# Altium integrated library TI Power Management Battery Management.IntLib: 949 symbols (part 20 of 62)
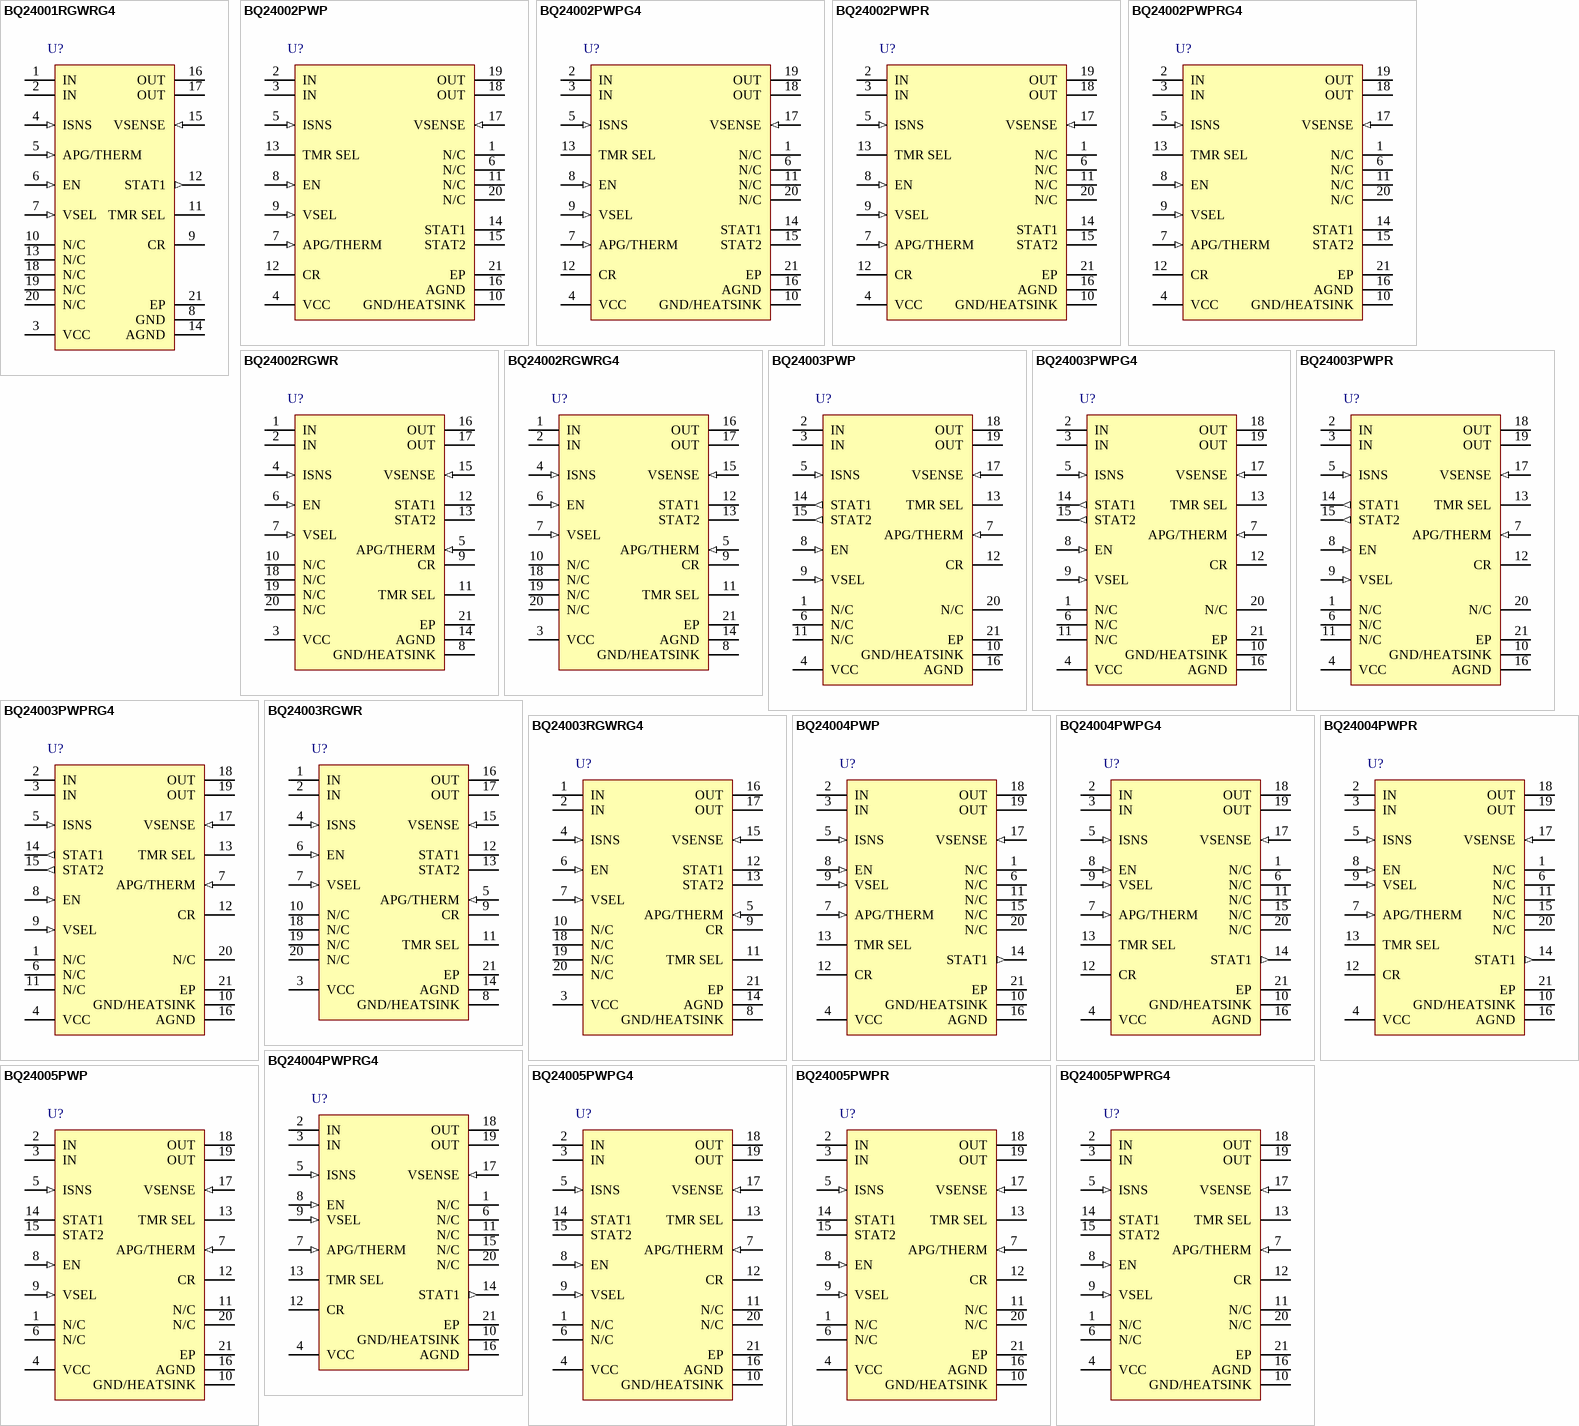
[diagram p53: symbols BQ24001RGWRG4 to BQ24005PWPRG4]

## BQ24002RGWR
designator U?
Linear 1-Cell Li-Ion Battery Charger with Integrated FET, Two LED, 4.5 V, -40 to 70 degC, 20-pin VQFN (RGW), Green (RoHS & no Sb/Br); PartNumber: BQ24002RGWR; Manufacturer: Texas Instruments; Lead Acid: N; Li-Ion: Y; SubFamily: Battery Charge Management; Vin(Min)(V): 4.5; DatasheetVersion: SLUS462E; PackageVersion: revI, May-2011; PackageReference: PWP20-3005X2005TP; PackageDescription: 20-Pin PowerPAD Plastic Small Outline 6.5 x 4.4 mm Body ,0.65 mm Pitch, Exposed Pad; Supplier 1: Digi-Key; Supplier Part Number 1: 296-12969-2-ND; Supplier 2: Digi-Key; Supplier Part Number 2: 296-12969-1-ND; Supplier 3: Digi-Key; Supplier Part Number 3: 296-12969-6-ND; Supplier 4: Newark; Supplier Part Number 4: 74C7635; Supplier 5: Mouser; Supplier Part Number 5: 595-BQ24002RGWR; Eco-Plan: Green (RoHS & no Sb/Br); Li-Polymer: Y; NiCd: N; NiMH: N; Over Voltage Protection: N; Mounting Technology: Surface Mount; Code_JEDEC: MO-153; ComponentLink1Description: Datasheet; ComponentLink1URL: http://www.ti.com/general/docs/lit/getliterature.tsp?genericPartNumber=BQ24002&fileType=pdf
footprint PWP20-3005X2005TP_N (TSOP, 20-Leads, Body 6.5x4.4mm, Pitch 0.65mm, Thermal Pad 3.7x2.4 mm, IPC Medium Density)
footprint PWP20-3005X2005TP_L (TSOP, 20-Leads, Body 6.5x4.4mm, Pitch 0.65mm, Thermal Pad 3.7x2.4 mm, IPC High Density)
footprint PWP20-3005X2005TP_M (TSOP, 20-Leads, Body 6.5x4.4mm, Pitch 0.65mm, Thermal Pad 3.7x2.4 mm, IPC Low Density)
pins: 1 IN (power) "Input voltage. This input provides the charging voltage for the battery", 2 IN (power) "Input voltage. This input provides the charging voltage for the battery", 3 VCC (power) "Supply voltage", 4 ISNS (in) "Current sense input", 5 APG/THERM (in) "Adapter power good input/thermistor sense input", 6 EN (in) "Charge-enable input. Active-high enable input with internal pull down. Low-current stand-by mode active when EN is low", 7 VSEL (in) "4.1 V or 4.2 V charge regulation selection input", 8 GND/HEATSINK (power) "Ground pin; connect to PowerPAD heat-sink layout pattern", 9 CR "Internal regulator bypass capacitor", 10 N/C "No connect. These pins must be left floating. Pin 15 is N/C on bq24001PWP only. Pin 13 is N/C on bq24001RGW only", 11 TMR SEL "Charge timer selection input", 12 STAT1 (oc) "Status display output 1", 13 STAT2 (oc) "Status display output 2 (for bq24002 and bq24003 only)", 14 AGND (power) "Ground pin; connect close to the negative battery terminal", 15 VSENSE (in) "Battery voltage sense input", 16 OUT (power) "Charge current output", 17 OUT (power) "Charge current output", 18 N/C "No connect. These pins must be left floating. Pin 15 is N/C on bq24001PWP only. Pin 13 is N/C on bq24001RGW only", 19 N/C "No connect. These pins must be left floating. Pin 15 is N/C on bq24001PWP only. Pin 13 is N/C on bq24001RGW only", 20 N/C "No connect. These pins must be left floating. Pin 15 is N/C on bq24001PWP only. Pin 13 is N/C on bq24001RGW only", 21 EP (power) "Exposed thermal pad"

## BQ24002RGWRG4
designator U?
Linear 1-Cell Li-Ion Battery Charger with Integrated FET, Two LED, 4.5 V, -40 to 70 degC, 20-pin VQFN (RGW), Green (RoHS & no Sb/Br); PartNumber: BQ24002RGWRG4; Manufacturer: Texas Instruments; Lead Acid: N; Li-Ion: Y; SubFamily: Battery Charge Management; Vin(Min)(V): 4.5; DatasheetVersion: SLUS462E; PackageVersion: revC, Jul-2011; PackageReference: RGW20-3150X3150TP; PackageDescription: 20-Pin Plastic Quad Flat No-Lead, 5 x 5 mm Body, 0.65 mm Pitch, 3.15 x 3.15 mm Exposed Pad; Supplier 1: Digi-Key; Supplier Part Number 1: BQ24002RGWRG4-ND; Supplier 2: Newark; Supplier Part Number 2: 24K4381; Supplier 3: Mouser; Supplier Part Number 3: 595-BQ24002RGWRG4; Eco-Plan: Green (RoHS & no Sb/Br); Li-Polymer: Y; NiCd: N; NiMH: N; Over Voltage Protection: N; Mounting Technology: Surface Mount; Code_JEDEC: MO-220; ComponentLink1Description: Datasheet; ComponentLink1URL: http://www.ti.com/general/docs/lit/getliterature.tsp?genericPartNumber=BQ24002&fileType=pdf
footprint RGW20-3150X3150TP (QFN, 20-Leads, Body 5x5mm, Pitch 0.65mm, Thermal Pad 3.15x3.15mm, TI Recommended)
pins: 1 IN (power) "Input voltage. This input provides the charging voltage for the battery", 2 IN (power) "Input voltage. This input provides the charging voltage for the battery", 3 VCC (power) "Supply voltage", 4 ISNS (in) "Current sense input", 5 APG/THERM (in) "Adapter power good input/thermistor sense input", 6 EN (in) "Charge-enable input. Active-high enable input with internal pull down. Low-current stand-by mode active when EN is low", 7 VSEL (in) "4.1 V or 4.2 V charge regulation selection input", 8 GND/HEATSINK (power) "Ground pin; connect to PowerPAD heat-sink layout pattern", 9 CR "Internal regulator bypass capacitor", 10 N/C "No connect. These pins must be left floating. Pin 15 is N/C on bq24001PWP only. Pin 13 is N/C on bq24001RGW only", 11 TMR SEL "Charge timer selection input", 12 STAT1 (oc) "Status display output 1", 13 STAT2 (oc) "Status display output 2 (for bq24002 and bq24003 only)", 14 AGND (power) "Ground pin; connect close to the negative battery terminal", 15 VSENSE (in) "Battery voltage sense input", 16 OUT (power) "Charge current output", 17 OUT (power) "Charge current output", 18 N/C "No connect. These pins must be left floating. Pin 15 is N/C on bq24001PWP only. Pin 13 is N/C on bq24001RGW only", 19 N/C "No connect. These pins must be left floating. Pin 15 is N/C on bq24001PWP only. Pin 13 is N/C on bq24001RGW only", 20 N/C "No connect. These pins must be left floating. Pin 15 is N/C on bq24001PWP only. Pin 13 is N/C on bq24001RGW only", 21 EP (power) "Exposed thermal pad"

## BQ24003PWP
designator U?
Linear 1-Cell Li-Ion Battery Charger with Integrated FET, Bi-Color LED, 4.5 V, 0 to 70 degC, 20-pin HTSSOP (PWP), Green (RoHS & no Sb/Br); PartNumber: BQ24003PWP; Manufacturer: Texas Instruments; Lead Acid: N; Li-Ion: Y; SubFamily: Battery Charge Management; Vin(Min)(V): 4.5; DatasheetVersion: SLUS462E; PackageVersion: revI, May-2011; PackageReference: PWP20-3005X2005TP; PackageDescription: 20-Pin PowerPAD Plastic Small Outline 6.5 x 4.4 mm Body ,0.65 mm Pitch, Exposed Pad; Supplier 1: Digi-Key; Supplier Part Number 1: 296-9380-5-ND; Supplier 2: Newark; Supplier Part Number 2: 74C7636; Supplier 3: Mouser; Supplier Part Number 3: 595-BQ24003PWP; Eco-Plan: Green (RoHS & no Sb/Br); Li-Polymer: Y; NiCd: N; NiMH: N; Over Voltage Protection: N; Mounting Technology: Surface Mount; Code_JEDEC: MO-153; ComponentLink1Description: Datasheet; ComponentLink1URL: http://www.ti.com/general/docs/lit/getliterature.tsp?genericPartNumber=BQ24003&fileType=pdf
footprint PWP20-3005X2005TP_N (TSOP, 20-Leads, Body 6.5x4.4mm, Pitch 0.65mm, Thermal Pad 3.7x2.4 mm, IPC Medium Density)
footprint PWP20-3005X2005TP_L (TSOP, 20-Leads, Body 6.5x4.4mm, Pitch 0.65mm, Thermal Pad 3.7x2.4 mm, IPC High Density)
footprint PWP20-3005X2005TP_M (TSOP, 20-Leads, Body 6.5x4.4mm, Pitch 0.65mm, Thermal Pad 3.7x2.4 mm, IPC Low Density)
pins: 1 N/C "No connect. These pins must be left floating. Pin 15 is N/C on bq24001PWP only. Pin 13 is N/C on bq24001RGW only.", 2 IN (power) "Input voltage. This input provides the charging voltage for the battery.", 3 IN (power) "Input voltage. This input provides the charging voltage for the battery.", 4 VCC (power) "Supply voltage", 5 ISNS (in) "Current sense input", 6 N/C "No connect. These pins must be left floating. Pin 15 is N/C on bq24001PWP only. Pin 13 is N/C on bq24001RGW only.", 7 APG/THERM (in) "Adapter power good input/thermistor sense input", 8 EN (in) "Charge-enable input. Active-high enable input with internal pull down. Low-current stand-by mode active when EN is low.", 9 VSEL (in) "4.1 V or 4.2 V charge regulation selection input", 10 GND/HEATSINK (power) "Ground pin; connect to PowerPAD heat-sink layout pattern.", 11 N/C "No connect. These pins must be left floating. Pin 15 is N/C on bq24001PWP only. Pin 13 is N/C on bq24001RGW only.", 12 CR "Internal regulator bypass capacitor", 13 TMR SEL "Charge timer selection input", 14 STAT1 (out) "Status display output 1", 15 STAT2 (out) "Status display output 2 (for bq24002 and bq24003 only)", 16 AGND (power) "Ground pin; connect close to the negative battery terminal.", 17 VSENSE (in) "Battery voltage sense input", 18 OUT (power) "Charge current output", 19 OUT (power) "Charge current output", 20 N/C "No connect. These pins must be left floating. Pin 15 is N/C on bq24001PWP only. Pin 13 is N/C on bq24001RGW only.", 21 EP (power) "Exposed pad"

## BQ24003PWPG4
designator U?
Linear 1-Cell Li-Ion Battery Charger with Integrated FET, Bi-Color LED, 4.5 V, 0 to 70 degC, 20-pin HTSSOP (PWP), Green (RoHS & no Sb/Br); PartNumber: BQ24003PWPG4; Manufacturer: Texas Instruments; Lead Acid: N; Li-Ion: Y; SubFamily: Battery Charge Management; Vin(Min)(V): 4.5; DatasheetVersion: SLUS462E; PackageVersion: revI, May-2011; PackageReference: PWP20-3005X2005TP; PackageDescription: 20-Pin PowerPAD Plastic Small Outline 6.5 x 4.4 mm Body ,0.65 mm Pitch, Exposed Pad; Supplier 1: Digi-Key; Supplier Part Number 1: BQ24003PWPG4-ND; Supplier 2: Newark; Supplier Part Number 2: 21M9450; Supplier 3: Mouser; Supplier Part Number 3: 595-BQ24003PWPG4; Eco-Plan: Green (RoHS & no Sb/Br); Li-Polymer: Y; NiCd: N; NiMH: N; Over Voltage Protection: N; Mounting Technology: Surface Mount; Code_JEDEC: MO-153; ComponentLink1Description: Datasheet; ComponentLink1URL: http://www.ti.com/general/docs/lit/getliterature.tsp?genericPartNumber=BQ24003&fileType=pdf
footprint PWP20-3005X2005TP_N (TSOP, 20-Leads, Body 6.5x4.4mm, Pitch 0.65mm, Thermal Pad 3.7x2.4 mm, IPC Medium Density)
footprint PWP20-3005X2005TP_L (TSOP, 20-Leads, Body 6.5x4.4mm, Pitch 0.65mm, Thermal Pad 3.7x2.4 mm, IPC High Density)
footprint PWP20-3005X2005TP_M (TSOP, 20-Leads, Body 6.5x4.4mm, Pitch 0.65mm, Thermal Pad 3.7x2.4 mm, IPC Low Density)
pins: 1 N/C "No connect. These pins must be left floating. Pin 15 is N/C on bq24001PWP only. Pin 13 is N/C on bq24001RGW only.", 2 IN (power) "Input voltage. This input provides the charging voltage for the battery.", 3 IN (power) "Input voltage. This input provides the charging voltage for the battery.", 4 VCC (power) "Supply voltage", 5 ISNS (in) "Current sense input", 6 N/C "No connect. These pins must be left floating. Pin 15 is N/C on bq24001PWP only. Pin 13 is N/C on bq24001RGW only.", 7 APG/THERM (in) "Adapter power good input/thermistor sense input", 8 EN (in) "Charge-enable input. Active-high enable input with internal pull down. Low-current stand-by mode active when EN is low.", 9 VSEL (in) "4.1 V or 4.2 V charge regulation selection input", 10 GND/HEATSINK (power) "Ground pin; connect to PowerPAD heat-sink layout pattern.", 11 N/C "No connect. These pins must be left floating. Pin 15 is N/C on bq24001PWP only. Pin 13 is N/C on bq24001RGW only.", 12 CR "Internal regulator bypass capacitor", 13 TMR SEL "Charge timer selection input", 14 STAT1 (out) "Status display output 1", 15 STAT2 (out) "Status display output 2 (for bq24002 and bq24003 only)", 16 AGND (power) "Ground pin; connect close to the negative battery terminal.", 17 VSENSE (in) "Battery voltage sense input", 18 OUT (power) "Charge current output", 19 OUT (power) "Charge current output", 20 N/C "No connect. These pins must be left floating. Pin 15 is N/C on bq24001PWP only. Pin 13 is N/C on bq24001RGW only.", 21 EP (power) "Exposed pad"

## BQ24003PWPR
designator U?
Linear 1-Cell Li-Ion Battery Charger with Integrated FET, Bi-Color LED, 4.5 V, 0 to 70 degC, 20-pin HTSSOP (PWP), Green (RoHS & no Sb/Br); PartNumber: BQ24003PWPR; Manufacturer: Texas Instruments; Lead Acid: N; Li-Ion: Y; SubFamily: Battery Charge Management; Vin(Min)(V): 4.5; DatasheetVersion: SLUS462E; PackageVersion: revI, May-2011; PackageReference: PWP20-3005X2005TP; PackageDescription: 20-Pin PowerPAD Plastic Small Outline 6.5 x 4.4 mm Body ,0.65 mm Pitch, Exposed Pad; Supplier 1: Digi-Key; Supplier Part Number 1: BQ24003PWPR-ND; Supplier 2: Newark; Supplier Part Number 2: 74C7637; Supplier 3: Mouser; Supplier Part Number 3: 595-BQ24003PWPR; Eco-Plan: Green (RoHS & no Sb/Br); Li-Polymer: Y; NiCd: N; NiMH: N; Over Voltage Protection: N; Mounting Technology: Surface Mount; Code_JEDEC: MO-153; ComponentLink1Description: Datasheet; ComponentLink1URL: http://www.ti.com/general/docs/lit/getliterature.tsp?genericPartNumber=BQ24003&fileType=pdf
footprint PWP20-3005X2005TP_N (TSOP, 20-Leads, Body 6.5x4.4mm, Pitch 0.65mm, Thermal Pad 3.7x2.4 mm, IPC Medium Density)
footprint PWP20-3005X2005TP_L (TSOP, 20-Leads, Body 6.5x4.4mm, Pitch 0.65mm, Thermal Pad 3.7x2.4 mm, IPC High Density)
footprint PWP20-3005X2005TP_M (TSOP, 20-Leads, Body 6.5x4.4mm, Pitch 0.65mm, Thermal Pad 3.7x2.4 mm, IPC Low Density)
pins: 1 N/C "No connect. These pins must be left floating. Pin 15 is N/C on bq24001PWP only. Pin 13 is N/C on bq24001RGW only.", 2 IN (power) "Input voltage. This input provides the charging voltage for the battery.", 3 IN (power) "Input voltage. This input provides the charging voltage for the battery.", 4 VCC (power) "Supply voltage", 5 ISNS (in) "Current sense input", 6 N/C "No connect. These pins must be left floating. Pin 15 is N/C on bq24001PWP only. Pin 13 is N/C on bq24001RGW only.", 7 APG/THERM (in) "Adapter power good input/thermistor sense input", 8 EN (in) "Charge-enable input. Active-high enable input with internal pull down. Low-current stand-by mode active when EN is low.", 9 VSEL (in) "4.1 V or 4.2 V charge regulation selection input", 10 GND/HEATSINK (power) "Ground pin; connect to PowerPAD heat-sink layout pattern.", 11 N/C "No connect. These pins must be left floating. Pin 15 is N/C on bq24001PWP only. Pin 13 is N/C on bq24001RGW only.", 12 CR "Internal regulator bypass capacitor", 13 TMR SEL "Charge timer selection input", 14 STAT1 (out) "Status display output 1", 15 STAT2 (out) "Status display output 2 (for bq24002 and bq24003 only)", 16 AGND (power) "Ground pin; connect close to the negative battery terminal.", 17 VSENSE (in) "Battery voltage sense input", 18 OUT (power) "Charge current output", 19 OUT (power) "Charge current output", 20 N/C "No connect. These pins must be left floating. Pin 15 is N/C on bq24001PWP only. Pin 13 is N/C on bq24001RGW only.", 21 EP (power) "Exposed pad"

## BQ24003PWPRG4
designator U?
Linear 1-Cell Li-Ion Battery Charger with Integrated FET, Bi-Color LED, 4.5 V, 0 to 70 degC, 20-pin HTSSOP (PWP), Green (RoHS & no Sb/Br); PartNumber: BQ24003PWPRG4; Manufacturer: Texas Instruments; Lead Acid: N; Li-Ion: Y; SubFamily: Battery Charge Management; Vin(Min)(V): 4.5; DatasheetVersion: SLUS462E; PackageVersion: revI, May-2011; PackageReference: PWP20-3005X2005TP; PackageDescription: 20-Pin PowerPAD Plastic Small Outline 6.5 x 4.4 mm Body ,0.65 mm Pitch, Exposed Pad; Supplier 1: Digi-Key; Supplier Part Number 1: BQ24003PWPRG4-ND; Supplier 2: Newark; Supplier Part Number 2: 53K9237; Supplier 3: Mouser; Supplier Part Number 3: 595-BQ24003PWPRG4; Eco-Plan: Green (RoHS & no Sb/Br); Li-Polymer: Y; NiCd: N; NiMH: N; Over Voltage Protection: N; Mounting Technology: Surface Mount; Code_JEDEC: MO-153; ComponentLink1Description: Datasheet; ComponentLink1URL: http://www.ti.com/general/docs/lit/getliterature.tsp?genericPartNumber=BQ24003&fileType=pdf
footprint PWP20-3005X2005TP_N (TSOP, 20-Leads, Body 6.5x4.4mm, Pitch 0.65mm, Thermal Pad 3.7x2.4 mm, IPC Medium Density)
footprint PWP20-3005X2005TP_L (TSOP, 20-Leads, Body 6.5x4.4mm, Pitch 0.65mm, Thermal Pad 3.7x2.4 mm, IPC High Density)
footprint PWP20-3005X2005TP_M (TSOP, 20-Leads, Body 6.5x4.4mm, Pitch 0.65mm, Thermal Pad 3.7x2.4 mm, IPC Low Density)
pins: 1 N/C "No connect. These pins must be left floating. Pin 15 is N/C on bq24001PWP only. Pin 13 is N/C on bq24001RGW only.", 2 IN (power) "Input voltage. This input provides the charging voltage for the battery.", 3 IN (power) "Input voltage. This input provides the charging voltage for the battery.", 4 VCC (power) "Supply voltage", 5 ISNS (in) "Current sense input", 6 N/C "No connect. These pins must be left floating. Pin 15 is N/C on bq24001PWP only. Pin 13 is N/C on bq24001RGW only.", 7 APG/THERM (in) "Adapter power good input/thermistor sense input", 8 EN (in) "Charge-enable input. Active-high enable input with internal pull down. Low-current stand-by mode active when EN is low.", 9 VSEL (in) "4.1 V or 4.2 V charge regulation selection input", 10 GND/HEATSINK (power) "Ground pin; connect to PowerPAD heat-sink layout pattern.", 11 N/C "No connect. These pins must be left floating. Pin 15 is N/C on bq24001PWP only. Pin 13 is N/C on bq24001RGW only.", 12 CR "Internal regulator bypass capacitor", 13 TMR SEL "Charge timer selection input", 14 STAT1 (out) "Status display output 1", 15 STAT2 (out) "Status display output 2 (for bq24002 and bq24003 only)", 16 AGND (power) "Ground pin; connect close to the negative battery terminal.", 17 VSENSE (in) "Battery voltage sense input", 18 OUT (power) "Charge current output", 19 OUT (power) "Charge current output", 20 N/C "No connect. These pins must be left floating. Pin 15 is N/C on bq24001PWP only. Pin 13 is N/C on bq24001RGW only.", 21 EP (power) "Exposed pad"

## BQ24003RGWR
designator U?
Linear 1-Cell Li-Ion Battery Charger with Integrated FET, Bi-Color LED, 4.5 V, -40 to 70 degC, 20-pin VQFN (RGW), Green (RoHS & no Sb/Br); PartNumber: BQ24003RGWR; Manufacturer: Texas Instruments; Lead Acid: N; Li-Ion: Y; SubFamily: Battery Charge Management; Vin(Min)(V): 4.5; DatasheetVersion: SLUS462E; PackageVersion: revC, Jul-2011; PackageReference: RGW20-3150X3150TP; PackageDescription: 20-Pin Plastic Quad Flat No-Lead, 5 x 5 mm Body, 0.65 mm Pitch, 3.15 x 3.15 mm Exposed Pad; Supplier 1: Digi-Key; Supplier Part Number 1: 296-12970-2-ND; Supplier 2: Digi-Key; Supplier Part Number 2: 296-12970-1-ND; Supplier 3: Digi-Key; Supplier Part Number 3: 296-12970-6-ND; Supplier 4: Newark; Supplier Part Number 4: 74C7638; Supplier 5: Mouser; Supplier Part Number 5: 595-BQ24003RGWR; Eco-Plan: Green (RoHS & no Sb/Br); Li-Polymer: Y; NiCd: N; NiMH: N; Over Voltage Protection: N; Mounting Technology: Surface Mount; Code_JEDEC: MO-220; ComponentLink1Description: Datasheet; ComponentLink1URL: http://www.ti.com/general/docs/lit/getliterature.tsp?genericPartNumber=BQ24003&fileType=pdf
footprint RGW20-3150X3150TP (QFN, 20-Leads, Body 5x5mm, Pitch 0.65mm, Thermal Pad 3.15x3.15mm, TI Recommended)
pins: 1 IN (power) "Input voltage. This input provides the charging voltage for the battery.", 2 IN (power) "Input voltage. This input provides the charging voltage for the battery.", 3 VCC (power) "Supply voltage", 4 ISNS (in) "Current sense input", 5 APG/THERM (in) "Adapter power good input/thermistor sense input", 6 EN (in) "Charge-enable input. Active-high enable input with internal pull down. Low-current stand-by mode active when EN is low.", 7 VSEL (in) "4.1 V or 4.2 V charge regulation selection input", 8 GND/HEATSINK (power) "Ground pin; connect to PowerPAD heat-sink layout pattern.", 9 CR "Internal regulator bypass capacitor", 10 N/C "No connect. These pins must be left floating.", 11 TMR SEL "Charge timer selection input", 12 STAT1 (oc) "Status display output 1", 13 STAT2 (oc) "Status display output 2", 14 AGND (power) "Ground pin; connect close to the negative battery terminal.", 15 VSENSE (in) "Battery voltage sense input", 16 OUT (power) "Charge current output", 17 OUT (power) "Charge current output", 18 N/C "No connect. These pins must be left floating.", 19 N/C "No connect. These pins must be left floating.", 20 N/C "No connect. These pins must be left floating.", 21 EP "Exposed thermal pad"

## BQ24003RGWRG4
designator U?
Linear 1-Cell Li-Ion Battery Charger with Integrated FET, Bi-Color LED, 4.5 V, -40 to 70 degC, 20-pin VQFN (RGW), Green (RoHS & no Sb/Br); PartNumber: BQ24003RGWRG4; Manufacturer: Texas Instruments; Lead Acid: N; Li-Ion: Y; SubFamily: Battery Charge Management; Vin(Min)(V): 4.5; DatasheetVersion: SLUS462E; PackageVersion: revC, Jul-2011; PackageReference: RGW20-3150X3150TP; PackageDescription: 20-Pin Plastic Quad Flat No-Lead, 5 x 5 mm Body, 0.65 mm Pitch, 3.15 x 3.15 mm Exposed Pad; Supplier 1: Digi-Key; Supplier Part Number 1: BQ24003RGWRG4-ND; Supplier 2: Newark; Supplier Part Number 2: 18M1768; Supplier 3: Mouser; Supplier Part Number 3: 595-BQ24003RGWRG4; Eco-Plan: Green (RoHS & no Sb/Br); Li-Polymer: Y; NiCd: N; NiMH: N; Over Voltage Protection: N; Mounting Technology: Surface Mount; Code_JEDEC: MO-220; ComponentLink1Description: Datasheet; ComponentLink1URL: http://www.ti.com/general/docs/lit/getliterature.tsp?genericPartNumber=BQ24003&fileType=pdf
footprint RGW20-3150X3150TP (QFN, 20-Leads, Body 5x5mm, Pitch 0.65mm, Thermal Pad 3.15x3.15mm, TI Recommended)
pins: 1 IN (power) "Input voltage. This input provides the charging voltage for the battery.", 2 IN (power) "Input voltage. This input provides the charging voltage for the battery.", 3 VCC (power) "Supply voltage", 4 ISNS (in) "Current sense input", 5 APG/THERM (in) "Adapter power good input/thermistor sense input", 6 EN (in) "Charge-enable input. Active-high enable input with internal pull down. Low-current stand-by mode active when EN is low.", 7 VSEL (in) "4.1 V or 4.2 V charge regulation selection input", 8 GND/HEATSINK (power) "Ground pin; connect to PowerPAD heat-sink layout pattern.", 9 CR "Internal regulator bypass capacitor", 10 N/C "No connect. These pins must be left floating.", 11 TMR SEL "Charge timer selection input", 12 STAT1 (oc) "Status display output 1", 13 STAT2 (oc) "Status display output 2", 14 AGND (power) "Ground pin; connect close to the negative battery terminal.", 15 VSENSE (in) "Battery voltage sense input", 16 OUT (power) "Charge current output", 17 OUT (power) "Charge current output", 18 N/C "No connect. These pins must be left floating.", 19 N/C "No connect. These pins must be left floating.", 20 N/C "No connect. These pins must be left floating.", 21 EP "Exposed thermal pad"

## BQ24004PWP
designator U?
Linear 2-Cell Li-Ion Battery Charger with Integrated FET, One LED, 4.5 V, 0 to 70 degC, 20-pin HTSSOP (PWP), Green (RoHS & no Sb/Br); PartNumber: BQ24004PWP; Manufacturer: Texas Instruments; Lead Acid: N; Li-Ion: Y; SubFamily: Battery Charge Management; Vin(Min)(V): 4.5; DatasheetVersion: SLUS476F; PackageVersion: revI, May-2011; PackageReference: PWP20-3005X2005TP; PackageDescription: 20-Pin PowerPAD Plastic Small Outline 6.5 x 4.4 mm Body ,0.65 mm Pitch, Exposed Pad; Supplier 1: Digi-Key; Supplier Part Number 1: 296-9381-5-ND; Supplier 2: Newark; Supplier Part Number 2: 74C7639; Supplier 3: Mouser; Supplier Part Number 3: 595-BQ24004PWP; Eco-Plan: Green (RoHS & no Sb/Br); Li-Polymer: Y; NiCd: N; NiMH: N; Over Voltage Protection: N; Mounting Technology: Surface Mount; Code_JEDEC: MO-153; ComponentLink1Description: Datasheet; ComponentLink1URL: http://www.ti.com/general/docs/lit/getliterature.tsp?genericPartNumber=BQ24004&fileType=pdf
footprint PWP20-3005X2005TP_N (TSOP, 20-Leads, Body 6.5x4.4mm, Pitch 0.65mm, Thermal Pad 3.7x2.4 mm, IPC Medium Density)
footprint PWP20-3005X2005TP_L (TSOP, 20-Leads, Body 6.5x4.4mm, Pitch 0.65mm, Thermal Pad 3.7x2.4 mm, IPC High Density)
footprint PWP20-3005X2005TP_M (TSOP, 20-Leads, Body 6.5x4.4mm, Pitch 0.65mm, Thermal Pad 3.7x2.4 mm, IPC Low Density)
pins: 1 N/C "No connect. These pins must be left floating", 2 IN (power) "Input voltage. This input provides the charging voltage for the battery.", 3 IN (power) "Input voltage. This input provides the charging voltage for the battery.", 4 VCC (power) "Supply voltage", 5 ISNS (in) "Current sense input", 6 N/C "No connect. These pins must be left floating", 7 APG/THERM (in) "Adapter power good input/thermistor sense input", 8 EN (in) "Charge-enable input. Active-high enable input with internal pull down. Low-current stand-by mode active when EN is low.", 9 VSEL (in) "8.2-V or 8.4-V charge regulation selection input", 10 GND/HEATSINK (power) "Ground pin; connect to PowerPAD heat-sink layout pattern.", 11 N/C "No connect. These pins must be left floating", 12 CR "Internal regulator bypass capacitor", 13 TMR SEL "Charge timer selection input", 14 STAT1 (out) "Status display output 1", 15 N/C "No connect. These pins must be left floating", 16 AGND (power) "Ground pin; connect close to the negative battery terminal.", 17 VSENSE (in) "Battery voltage sense input", 18 OUT (power) "Charge current output", 19 OUT (power) "Charge current output", 20 N/C "No connect. These pins must be left floating", 21 EP (power) "Exposed Thermal Pad"

## BQ24004PWPG4
designator U?
Linear 2-Cell Li-Ion Battery Charger with Integrated FET, One LED, 4.5 V, 0 to 70 degC, 20-pin HTSSOP (PWP), Green (RoHS & no Sb/Br); PartNumber: BQ24004PWPG4; Manufacturer: Texas Instruments; Lead Acid: N; Li-Ion: Y; SubFamily: Battery Charge Management; Vin(Min)(V): 4.5; DatasheetVersion: SLUS476F; PackageVersion: revI, May-2011; PackageReference: PWP20-3005X2005TP; PackageDescription: 20-Pin PowerPAD Plastic Small Outline 6.5 x 4.4 mm Body ,0.65 mm Pitch, Exposed Pad; Supplier 1: Digi-Key; Supplier Part Number 1: BQ24004PWPG4-ND; Supplier 2: Newark; Supplier Part Number 2: 33K4794; Supplier 3: Mouser; Supplier Part Number 3: 595-BQ24004PWPG4; Eco-Plan: Green (RoHS & no Sb/Br); Li-Polymer: Y; NiCd: N; NiMH: N; Over Voltage Protection: N; Mounting Technology: Surface Mount; Code_JEDEC: MO-153; ComponentLink1Description: Datasheet; ComponentLink1URL: http://www.ti.com/general/docs/lit/getliterature.tsp?genericPartNumber=BQ24004&fileType=pdf
footprint PWP20-3005X2005TP_N (TSOP, 20-Leads, Body 6.5x4.4mm, Pitch 0.65mm, Thermal Pad 3.7x2.4 mm, IPC Medium Density)
footprint PWP20-3005X2005TP_L (TSOP, 20-Leads, Body 6.5x4.4mm, Pitch 0.65mm, Thermal Pad 3.7x2.4 mm, IPC High Density)
footprint PWP20-3005X2005TP_M (TSOP, 20-Leads, Body 6.5x4.4mm, Pitch 0.65mm, Thermal Pad 3.7x2.4 mm, IPC Low Density)
pins: 1 N/C "No connect. These pins must be left floating", 2 IN (power) "Input voltage. This input provides the charging voltage for the battery.", 3 IN (power) "Input voltage. This input provides the charging voltage for the battery.", 4 VCC (power) "Supply voltage", 5 ISNS (in) "Current sense input", 6 N/C "No connect. These pins must be left floating", 7 APG/THERM (in) "Adapter power good input/thermistor sense input", 8 EN (in) "Charge-enable input. Active-high enable input with internal pull down. Low-current stand-by mode active when EN is low.", 9 VSEL (in) "8.2-V or 8.4-V charge regulation selection input", 10 GND/HEATSINK (power) "Ground pin; connect to PowerPAD heat-sink layout pattern.", 11 N/C "No connect. These pins must be left floating", 12 CR "Internal regulator bypass capacitor", 13 TMR SEL "Charge timer selection input", 14 STAT1 (out) "Status display output 1", 15 N/C "No connect. These pins must be left floating", 16 AGND (power) "Ground pin; connect close to the negative battery terminal.", 17 VSENSE (in) "Battery voltage sense input", 18 OUT (power) "Charge current output", 19 OUT (power) "Charge current output", 20 N/C "No connect. These pins must be left floating", 21 EP (power) "Exposed Thermal Pad"

## BQ24004PWPR
designator U?
Linear 2-Cell Li-Ion Battery Charger with Integrated FET, One LED, 4.5 V, 0 to 70 degC, 20-pin HTSSOP (PWP), Green (RoHS & no Sb/Br); PartNumber: BQ24004PWPR; Manufacturer: Texas Instruments; Lead Acid: N; Li-Ion: Y; SubFamily: Battery Charge Management; Vin(Min)(V): 4.5; DatasheetVersion: SLUS476F; PackageVersion: revI, May-2011; PackageReference: PWP20-3005X2005TP; PackageDescription: 20-Pin PowerPAD Plastic Small Outline 6.5 x 4.4 mm Body ,0.65 mm Pitch, Exposed Pad; Supplier 1: Digi-Key; Supplier Part Number 1: BQ24004PWPR-ND; Supplier 2: Newark; Supplier Part Number 2: 74C7640; Supplier 3: Mouser; Supplier Part Number 3: 595-BQ24004PWPR; Eco-Plan: Green (RoHS & no Sb/Br); Li-Polymer: Y; NiCd: N; NiMH: N; Over Voltage Protection: N; Mounting Technology: Surface Mount; Code_JEDEC: MO-153; ComponentLink1Description: Datasheet; ComponentLink1URL: http://www.ti.com/general/docs/lit/getliterature.tsp?genericPartNumber=BQ24004&fileType=pdf
footprint PWP20-3005X2005TP_N (TSOP, 20-Leads, Body 6.5x4.4mm, Pitch 0.65mm, Thermal Pad 3.7x2.4 mm, IPC Medium Density)
footprint PWP20-3005X2005TP_L (TSOP, 20-Leads, Body 6.5x4.4mm, Pitch 0.65mm, Thermal Pad 3.7x2.4 mm, IPC High Density)
footprint PWP20-3005X2005TP_M (TSOP, 20-Leads, Body 6.5x4.4mm, Pitch 0.65mm, Thermal Pad 3.7x2.4 mm, IPC Low Density)
pins: 1 N/C "No connect. These pins must be left floating", 2 IN (power) "Input voltage. This input provides the charging voltage for the battery.", 3 IN (power) "Input voltage. This input provides the charging voltage for the battery.", 4 VCC (power) "Supply voltage", 5 ISNS (in) "Current sense input", 6 N/C "No connect. These pins must be left floating", 7 APG/THERM (in) "Adapter power good input/thermistor sense input", 8 EN (in) "Charge-enable input. Active-high enable input with internal pull down. Low-current stand-by mode active when EN is low.", 9 VSEL (in) "8.2-V or 8.4-V charge regulation selection input", 10 GND/HEATSINK (power) "Ground pin; connect to PowerPAD heat-sink layout pattern.", 11 N/C "No connect. These pins must be left floating", 12 CR "Internal regulator bypass capacitor", 13 TMR SEL "Charge timer selection input", 14 STAT1 (out) "Status display output 1", 15 N/C "No connect. These pins must be left floating", 16 AGND (power) "Ground pin; connect close to the negative battery terminal.", 17 VSENSE (in) "Battery voltage sense input", 18 OUT (power) "Charge current output", 19 OUT (power) "Charge current output", 20 N/C "No connect. These pins must be left floating", 21 EP (power) "Exposed Thermal Pad"

## BQ24004PWPRG4
designator U?
Linear 2-Cell Li-Ion Battery Charger with Integrated FET, One LED, 4.5 V, 0 to 70 degC, 20-pin HTSSOP (PWP), Green (RoHS & no Sb/Br); PartNumber: BQ24004PWPRG4; Manufacturer: Texas Instruments; Lead Acid: N; Li-Ion: Y; SubFamily: Battery Charge Management; Vin(Min)(V): 4.5; DatasheetVersion: SLUS476F; PackageVersion: revI, May-2011; PackageReference: PWP20-3005X2005TP; PackageDescription: 20-Pin PowerPAD Plastic Small Outline 6.5 x 4.4 mm Body ,0.65 mm Pitch, Exposed Pad; Supplier 1: Digi-Key; Supplier Part Number 1: BQ24004PWPRG4-ND; Supplier 2: Newark; Supplier Part Number 2: 33K4795; Supplier 3: Mouser; Supplier Part Number 3: 595-BQ24004PWPRG4; Eco-Plan: Green (RoHS & no Sb/Br); Li-Polymer: Y; NiCd: N; NiMH: N; Over Voltage Protection: N; Mounting Technology: Surface Mount; Code_JEDEC: MO-153; ComponentLink1Description: Datasheet; ComponentLink1URL: http://www.ti.com/general/docs/lit/getliterature.tsp?genericPartNumber=BQ24004&fileType=pdf
footprint PWP20-3005X2005TP_N (TSOP, 20-Leads, Body 6.5x4.4mm, Pitch 0.65mm, Thermal Pad 3.7x2.4 mm, IPC Medium Density)
footprint PWP20-3005X2005TP_L (TSOP, 20-Leads, Body 6.5x4.4mm, Pitch 0.65mm, Thermal Pad 3.7x2.4 mm, IPC High Density)
footprint PWP20-3005X2005TP_M (TSOP, 20-Leads, Body 6.5x4.4mm, Pitch 0.65mm, Thermal Pad 3.7x2.4 mm, IPC Low Density)
pins: 1 N/C "No connect. These pins must be left floating", 2 IN (power) "Input voltage. This input provides the charging voltage for the battery.", 3 IN (power) "Input voltage. This input provides the charging voltage for the battery.", 4 VCC (power) "Supply voltage", 5 ISNS (in) "Current sense input", 6 N/C "No connect. These pins must be left floating", 7 APG/THERM (in) "Adapter power good input/thermistor sense input", 8 EN (in) "Charge-enable input. Active-high enable input with internal pull down. Low-current stand-by mode active when EN is low.", 9 VSEL (in) "8.2-V or 8.4-V charge regulation selection input", 10 GND/HEATSINK (power) "Ground pin; connect to PowerPAD heat-sink layout pattern.", 11 N/C "No connect. These pins must be left floating", 12 CR "Internal regulator bypass capacitor", 13 TMR SEL "Charge timer selection input", 14 STAT1 (out) "Status display output 1", 15 N/C "No connect. These pins must be left floating", 16 AGND (power) "Ground pin; connect close to the negative battery terminal.", 17 VSENSE (in) "Battery voltage sense input", 18 OUT (power) "Charge current output", 19 OUT (power) "Charge current output", 20 N/C "No connect. These pins must be left floating", 21 EP (power) "Exposed Thermal Pad"

## BQ24005PWP
designator U?
Linear 2-Cell Li-Ion Battery Charger with Integrated FET, Two LED, 4.5 V, -20 to 70 degC, 20-pin HTSSOP (PWP), Green (RoHS & no Sb/Br); PartNumber: BQ24005PWP; Manufacturer: Texas Instruments; Lead Acid: N; Li-Ion: Y; SubFamily: Battery Charge Management; Vin(Min)(V): 4.5; DatasheetVersion: SLUS476F; PackageVersion: revI, May-2011; PackageReference: PWP20-3005X2005TP; PackageDescription: 20-Pin PowerPAD Plastic Small Outline 6.5 x 4.4 mm Body ,0.65 mm Pitch, Exposed Pad; Supplier 1: Digi-Key; Supplier Part Number 1: 296-9382-5-ND; Supplier 2: Farnell; Supplier Part Number 2: 1106058; Supplier 3: Newark; Supplier Part Number 3: 74C7641; Supplier 4: Mouser; Supplier Part Number 4: 595-BQ24005PWP; Eco-Plan: Green (RoHS & no Sb/Br); Li-Polymer: Y; NiCd: N; NiMH: N; Over Voltage Protection: N; Mounting Technology: Surface Mount; Code_JEDEC: MO-153; ComponentLink1Description: Datasheet; ComponentLink1URL: http://www.ti.com/general/docs/lit/getliterature.tsp?genericPartNumber=BQ24005&fileType=pdf
footprint PWP20-3005X2005TP_N (TSOP, 20-Leads, Body 6.5x4.4mm, Pitch 0.65mm, Thermal Pad 3.7x2.4 mm, IPC Medium Density)
footprint PWP20-3005X2005TP_L (TSOP, 20-Leads, Body 6.5x4.4mm, Pitch 0.65mm, Thermal Pad 3.7x2.4 mm, IPC High Density)
footprint PWP20-3005X2005TP_M (TSOP, 20-Leads, Body 6.5x4.4mm, Pitch 0.65mm, Thermal Pad 3.7x2.4 mm, IPC Low Density)
pins: 1 N/C "No connect. These pins must be left floating. Pin 15 is N/C on bq24004PWP only.", 2 IN (power) "Input voltage. This input provides the charging voltage for the battery.", 3 IN (power) "Input voltage. This input provides the charging voltage for the battery.", 4 VCC (power) "Supply voltage", 5 ISNS (in) "Current sense input", 6 N/C "No connect. These pins must be left floating. Pin 15 is N/C on bq24004PWP only.", 7 APG/THERM (in) "Adapter power good input/thermistor sense input", 8 EN (in) "Charge-enable input. Active-high enable input with internal pull down. Low-current stand-by mode active when EN is low.", 9 VSEL (in) "8.2-V or 8.4-V charge regulation selection input", 10 GND/HEATSINK (power) "Ground pin; connect to PowerPAD heat-sink layout pattern.", 11 N/C "No connect. These pins must be left floating. Pin 15 is N/C on bq24004PWP only.", 12 CR "Internal regulator bypass capacitor", 13 TMR SEL "Charge timer selection input", 14 STAT1 (oc) "Status display output 1", 15 STAT2 (oc) "Status display output 2", 16 AGND (power) "Ground pin; connect close to the negative battery terminal.", 17 VSENSE (in) "Battery voltage sense input", 18 OUT (power) "Charge current output", 19 OUT (power) "Charge current output", 20 N/C "No connect. These pins must be left floating. Pin 15 is N/C on bq24004PWP only.", 21 EP (power) "Exposed Thermal Pad"

## BQ24005PWPG4
designator U?
Linear 2-Cell Li-Ion Battery Charger with Integrated FET, Two LED, 4.5 V, -20 to 70 degC, 20-pin HTSSOP (PWP), Green (RoHS & no Sb/Br); PartNumber: BQ24005PWPG4; Manufacturer: Texas Instruments; Lead Acid: N; Li-Ion: Y; SubFamily: Battery Charge Management; Vin(Min)(V): 4.5; DatasheetVersion: SLUS476F; PackageVersion: revI, May-2011; PackageReference: PWP20-3005X2005TP; PackageDescription: 20-Pin PowerPAD Plastic Small Outline 6.5 x 4.4 mm Body ,0.65 mm Pitch, Exposed Pad; Supplier 1: Digi-Key; Supplier Part Number 1: BQ24005PWPG4-ND; Supplier 2: Newark; Supplier Part Number 2: 53K9238; Supplier 3: Mouser; Supplier Part Number 3: 595-BQ24005PWPG4; Eco-Plan: Green (RoHS & no Sb/Br); Li-Polymer: Y; NiCd: N; NiMH: N; Over Voltage Protection: N; Mounting Technology: Surface Mount; Code_JEDEC: MO-153; ComponentLink1Description: Datasheet; ComponentLink1URL: http://www.ti.com/general/docs/lit/getliterature.tsp?genericPartNumber=BQ24005&fileType=pdf
footprint PWP20-3005X2005TP_N (TSOP, 20-Leads, Body 6.5x4.4mm, Pitch 0.65mm, Thermal Pad 3.7x2.4 mm, IPC Medium Density)
footprint PWP20-3005X2005TP_L (TSOP, 20-Leads, Body 6.5x4.4mm, Pitch 0.65mm, Thermal Pad 3.7x2.4 mm, IPC High Density)
footprint PWP20-3005X2005TP_M (TSOP, 20-Leads, Body 6.5x4.4mm, Pitch 0.65mm, Thermal Pad 3.7x2.4 mm, IPC Low Density)
pins: 1 N/C "No connect. These pins must be left floating. Pin 15 is N/C on bq24004PWP only.", 2 IN (power) "Input voltage. This input provides the charging voltage for the battery.", 3 IN (power) "Input voltage. This input provides the charging voltage for the battery.", 4 VCC (power) "Supply voltage", 5 ISNS (in) "Current sense input", 6 N/C "No connect. These pins must be left floating. Pin 15 is N/C on bq24004PWP only.", 7 APG/THERM (in) "Adapter power good input/thermistor sense input", 8 EN (in) "Charge-enable input. Active-high enable input with internal pull down. Low-current stand-by mode active when EN is low.", 9 VSEL (in) "8.2-V or 8.4-V charge regulation selection input", 10 GND/HEATSINK (power) "Ground pin; connect to PowerPAD heat-sink layout pattern.", 11 N/C "No connect. These pins must be left floating. Pin 15 is N/C on bq24004PWP only.", 12 CR "Internal regulator bypass capacitor", 13 TMR SEL "Charge timer selection input", 14 STAT1 (oc) "Status display output 1", 15 STAT2 (oc) "Status display output 2", 16 AGND (power) "Ground pin; connect close to the negative battery terminal.", 17 VSENSE (in) "Battery voltage sense input", 18 OUT (power) "Charge current output", 19 OUT (power) "Charge current output", 20 N/C "No connect. These pins must be left floating. Pin 15 is N/C on bq24004PWP only.", 21 EP (power) "Exposed Thermal Pad"

## BQ24005PWPR
designator U?
Linear 2-Cell Li-Ion Battery Charger with Integrated FET, Two LED, 4.5 V, -20 to 70 degC, 20-pin HTSSOP (PWP), Green (RoHS & no Sb/Br); PartNumber: BQ24005PWPR; Manufacturer: Texas Instruments; Lead Acid: N; Li-Ion: Y; SubFamily: Battery Charge Management; Vin(Min)(V): 4.5; DatasheetVersion: SLUS476F; PackageVersion: revI, May-2011; PackageReference: PWP20-3005X2005TP; PackageDescription: 20-Pin PowerPAD Plastic Small Outline 6.5 x 4.4 mm Body ,0.65 mm Pitch, Exposed Pad; Supplier 1: Digi-Key; Supplier Part Number 1: 296-25921-2-ND; Supplier 2: Digi-Key; Supplier Part Number 2: 296-25921-1-ND; Supplier 3: Digi-Key; Supplier Part Number 3: 296-25921-6-ND; Supplier 4: Newark; Supplier Part Number 4: 74C7642; Supplier 5: Mouser; Supplier Part Number 5: 595-BQ24005PWPR; Eco-Plan: Green (RoHS & no Sb/Br); Li-Polymer: Y; NiCd: N; NiMH: N; Over Voltage Protection: N; Mounting Technology: Surface Mount; Code_JEDEC: MO-153; ComponentLink1Description: Datasheet; ComponentLink1URL: http://www.ti.com/general/docs/lit/getliterature.tsp?genericPartNumber=BQ24005&fileType=pdf
footprint PWP20-3005X2005TP_N (TSOP, 20-Leads, Body 6.5x4.4mm, Pitch 0.65mm, Thermal Pad 3.7x2.4 mm, IPC Medium Density)
footprint PWP20-3005X2005TP_L (TSOP, 20-Leads, Body 6.5x4.4mm, Pitch 0.65mm, Thermal Pad 3.7x2.4 mm, IPC High Density)
footprint PWP20-3005X2005TP_M (TSOP, 20-Leads, Body 6.5x4.4mm, Pitch 0.65mm, Thermal Pad 3.7x2.4 mm, IPC Low Density)
pins: 1 N/C "No connect. These pins must be left floating. Pin 15 is N/C on bq24004PWP only.", 2 IN (power) "Input voltage. This input provides the charging voltage for the battery.", 3 IN (power) "Input voltage. This input provides the charging voltage for the battery.", 4 VCC (power) "Supply voltage", 5 ISNS (in) "Current sense input", 6 N/C "No connect. These pins must be left floating. Pin 15 is N/C on bq24004PWP only.", 7 APG/THERM (in) "Adapter power good input/thermistor sense input", 8 EN (in) "Charge-enable input. Active-high enable input with internal pull down. Low-current stand-by mode active when EN is low.", 9 VSEL (in) "8.2-V or 8.4-V charge regulation selection input", 10 GND/HEATSINK (power) "Ground pin; connect to PowerPAD heat-sink layout pattern.", 11 N/C "No connect. These pins must be left floating. Pin 15 is N/C on bq24004PWP only.", 12 CR "Internal regulator bypass capacitor", 13 TMR SEL "Charge timer selection input", 14 STAT1 (oc) "Status display output 1", 15 STAT2 (oc) "Status display output 2", 16 AGND (power) "Ground pin; connect close to the negative battery terminal.", 17 VSENSE (in) "Battery voltage sense input", 18 OUT (power) "Charge current output", 19 OUT (power) "Charge current output", 20 N/C "No connect. These pins must be left floating. Pin 15 is N/C on bq24004PWP only.", 21 EP (power) "Exposed Thermal Pad"

## BQ24005PWPRG4
designator U?
Linear 2-Cell Li-Ion Battery Charger with Integrated FET, Two LED, 4.5 V, -20 to 70 degC, 20-pin HTSSOP (PWP), Green (RoHS & no Sb/Br); PartNumber: BQ24005PWPRG4; Manufacturer: Texas Instruments; Lead Acid: N; Li-Ion: Y; SubFamily: Battery Charge Management; Vin(Min)(V): 4.5; DatasheetVersion: SLUS476F; PackageVersion: revI, May-2011; PackageReference: PWP20-3005X2005TP; PackageDescription: 20-Pin PowerPAD Plastic Small Outline 6.5 x 4.4 mm Body ,0.65 mm Pitch, Exposed Pad; Supplier 1: Digi-Key; Supplier Part Number 1: BQ24005PWPRG4-ND; Supplier 2: Newark; Supplier Part Number 2: 33K4796; Supplier 3: Mouser; Supplier Part Number 3: 595-BQ24005PWPRG4; Eco-Plan: Green (RoHS & no Sb/Br); Li-Polymer: Y; NiCd: N; NiMH: N; Over Voltage Protection: N; Mounting Technology: Surface Mount; Code_JEDEC: MO-153; ComponentLink1Description: Datasheet; ComponentLink1URL: http://www.ti.com/general/docs/lit/getliterature.tsp?genericPartNumber=BQ24005&fileType=pdf
footprint PWP20-3005X2005TP_N (TSOP, 20-Leads, Body 6.5x4.4mm, Pitch 0.65mm, Thermal Pad 3.7x2.4 mm, IPC Medium Density)
footprint PWP20-3005X2005TP_L (TSOP, 20-Leads, Body 6.5x4.4mm, Pitch 0.65mm, Thermal Pad 3.7x2.4 mm, IPC High Density)
footprint PWP20-3005X2005TP_M (TSOP, 20-Leads, Body 6.5x4.4mm, Pitch 0.65mm, Thermal Pad 3.7x2.4 mm, IPC Low Density)
pins: 1 N/C "No connect. These pins must be left floating. Pin 15 is N/C on bq24004PWP only.", 2 IN (power) "Input voltage. This input provides the charging voltage for the battery.", 3 IN (power) "Input voltage. This input provides the charging voltage for the battery.", 4 VCC (power) "Supply voltage", 5 ISNS (in) "Current sense input", 6 N/C "No connect. These pins must be left floating. Pin 15 is N/C on bq24004PWP only.", 7 APG/THERM (in) "Adapter power good input/thermistor sense input", 8 EN (in) "Charge-enable input. Active-high enable input with internal pull down. Low-current stand-by mode active when EN is low.", 9 VSEL (in) "8.2-V or 8.4-V charge regulation selection input", 10 GND/HEATSINK (power) "Ground pin; connect to PowerPAD heat-sink layout pattern.", 11 N/C "No connect. These pins must be left floating. Pin 15 is N/C on bq24004PWP only.", 12 CR "Internal regulator bypass capacitor", 13 TMR SEL "Charge timer selection input", 14 STAT1 (oc) "Status display output 1", 15 STAT2 (oc) "Status display output 2", 16 AGND (power) "Ground pin; connect close to the negative battery terminal.", 17 VSENSE (in) "Battery voltage sense input", 18 OUT (power) "Charge current output", 19 OUT (power) "Charge current output", 20 N/C "No connect. These pins must be left floating. Pin 15 is N/C on bq24004PWP only.", 21 EP (power) "Exposed Thermal Pad"

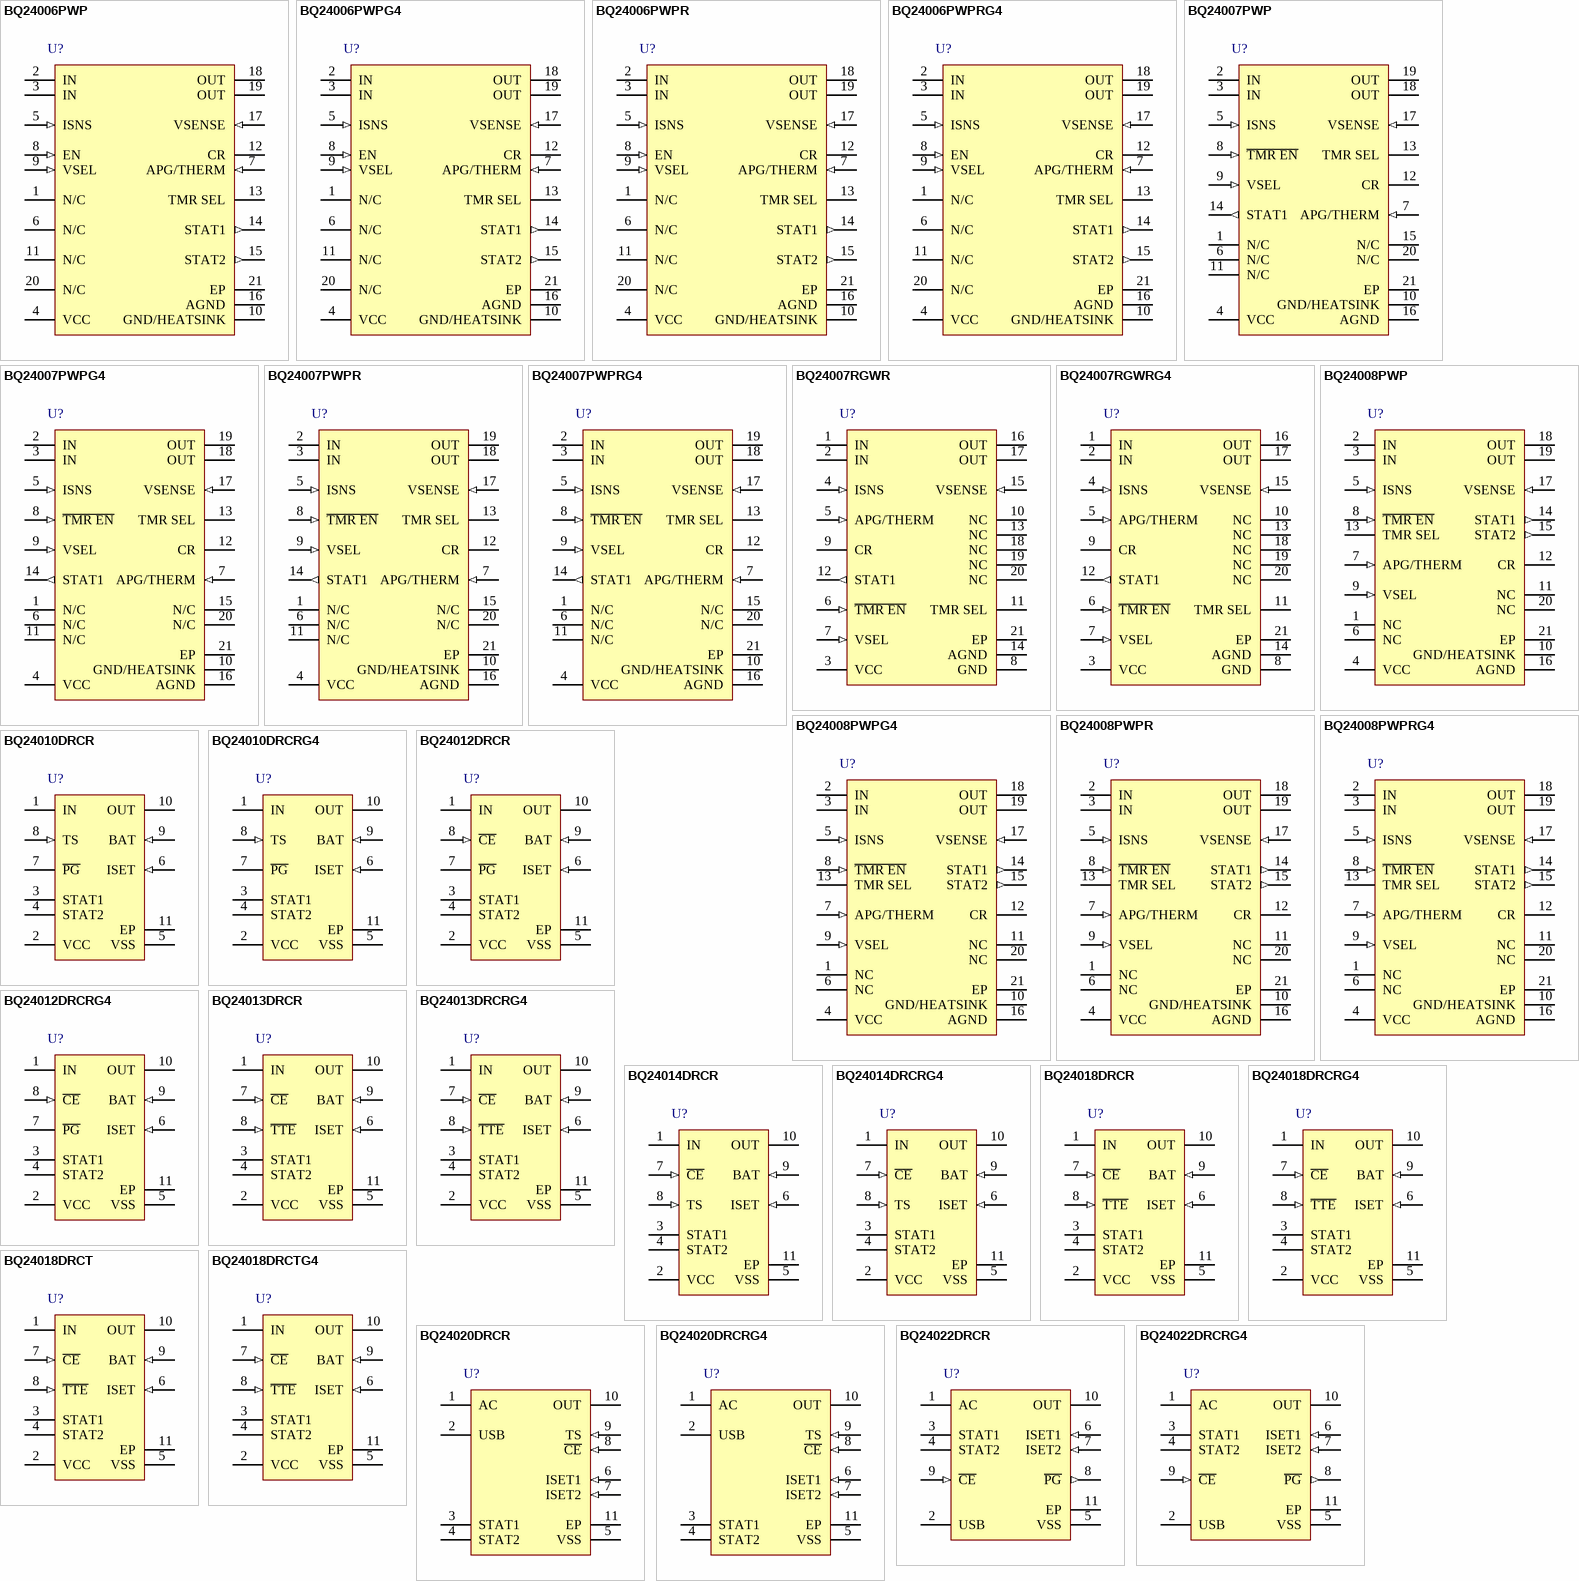
[diagram p12: symbols BQ24006PWP to BQ24022DRCRG4]

## BQ24006PWP
designator U?
Linear 2-Cell Li-Ion Battery Charger with Integrated FET, Bi-Color LED, 4.5 V, 0 to 70 degC, 20-pin HTSSOP (PWP), Green (RoHS & no Sb/Br); PartNumber: BQ24006PWP; Manufacturer: Texas Instruments; Lead Acid: N; Li-Ion: Y; SubFamily: Battery Charge Management; Vin(Min)(V): 4.5; DatasheetVersion: SLUS476F; PackageVersion: revI, May-2011; PackageReference: PWP20-3005X2005TP; PackageDescription: 20-Pin PowerPAD Plastic Small Outline 6.5 x 4.4 mm Body ,0.65 mm Pitch, Exposed Pad; Supplier 1: Digi-Key; Supplier Part Number 1: 296-9383-5-ND; Supplier 2: Newark; Supplier Part Number 2: 74C7643; Supplier 3: Mouser; Supplier Part Number 3: 595-BQ24006PWP; Eco-Plan: Green (RoHS & no Sb/Br); Li-Polymer: Y; NiCd: N; NiMH: N; Over Voltage Protection: N; Mounting Technology: Surface Mount; Code_JEDEC: MO-153; ComponentLink1Description: Datasheet; ComponentLink1URL: http://www.ti.com/general/docs/lit/getliterature.tsp?genericPartNumber=BQ24006&fileType=pdf
footprint PWP20-3005X2005TP_N (TSOP, 20-Leads, Body 6.5x4.4mm, Pitch 0.65mm, Thermal Pad 3.7x2.4 mm, IPC Medium Density)
footprint PWP20-3005X2005TP_L (TSOP, 20-Leads, Body 6.5x4.4mm, Pitch 0.65mm, Thermal Pad 3.7x2.4 mm, IPC High Density)
footprint PWP20-3005X2005TP_M (TSOP, 20-Leads, Body 6.5x4.4mm, Pitch 0.65mm, Thermal Pad 3.7x2.4 mm, IPC Low Density)
pins: 1 N/C "No connect. These pins must be left floating.", 2 IN (power) "Input voltage. This input provides the charging voltage for the battery.", 3 IN (power) "Input voltage. This input provides the charging voltage for the battery.", 4 VCC (power) "Supply voltage", 5 ISNS (in) "Current sense input", 6 N/C "No connect. These pins must be left floating.", 7 APG/THERM (in) "Adapter power good input/thermistor sense input", 8 EN (in) "Charge-enable input. Active-high enable input with internal pull down. Low-current stand-by mode active when EN is low.", 9 VSEL (in) "8.2-V or 8.4-V charge regulation selection input", 10 GND/HEATSINK (power) "Ground pin; connect to PowerPAD heat-sink layout pattern.", 11 N/C "No connect. These pins must be left floating.", 12 CR "Internal regulator bypass capacitor", 13 TMR SEL "Charge timer selection input", 14 STAT1 (out) "Status display output 1", 15 STAT2 (out) "Status display output 2", 16 AGND (power) "Ground pin; connect close to the negative battery terminal.", 17 VSENSE (in) "Battery voltage sense input", 18 OUT (power) "Charge current output", 19 OUT (power) "Charge current output", 20 N/C "No connect. These pins must be left floating.", 21 EP "Exposed Thermal Pad"

## BQ24006PWPG4
designator U?
Linear 2-Cell Li-Ion Battery Charger with Integrated FET, Bi-Color LED, 4.5 V, 0 to 70 degC, 20-pin HTSSOP (PWP), Green (RoHS & no Sb/Br); PartNumber: BQ24006PWPG4; Manufacturer: Texas Instruments; Lead Acid: N; Li-Ion: Y; SubFamily: Battery Charge Management; Vin(Min)(V): 4.5; DatasheetVersion: SLUS476F; PackageVersion: revI, May-2011; PackageReference: PWP20-3005X2005TP; PackageDescription: 20-Pin PowerPAD Plastic Small Outline 6.5 x 4.4 mm Body ,0.65 mm Pitch, Exposed Pad; Supplier 1: Digi-Key; Supplier Part Number 1: BQ24006PWPG4-ND; Supplier 2: Newark; Supplier Part Number 2: 53K9239; Supplier 3: Mouser; Supplier Part Number 3: 595-BQ24006PWPG4; Eco-Plan: Green (RoHS & no Sb/Br); Li-Polymer: Y; NiCd: N; NiMH: N; Over Voltage Protection: N; Mounting Technology: Surface Mount; Code_JEDEC: MO-153; ComponentLink1Description: Datasheet; ComponentLink1URL: http://www.ti.com/general/docs/lit/getliterature.tsp?genericPartNumber=BQ24006&fileType=pdf
footprint PWP20-3005X2005TP_N (TSOP, 20-Leads, Body 6.5x4.4mm, Pitch 0.65mm, Thermal Pad 3.7x2.4 mm, IPC Medium Density)
footprint PWP20-3005X2005TP_L (TSOP, 20-Leads, Body 6.5x4.4mm, Pitch 0.65mm, Thermal Pad 3.7x2.4 mm, IPC High Density)
footprint PWP20-3005X2005TP_M (TSOP, 20-Leads, Body 6.5x4.4mm, Pitch 0.65mm, Thermal Pad 3.7x2.4 mm, IPC Low Density)
pins: 1 N/C "No connect. These pins must be left floating.", 2 IN (power) "Input voltage. This input provides the charging voltage for the battery.", 3 IN (power) "Input voltage. This input provides the charging voltage for the battery.", 4 VCC (power) "Supply voltage", 5 ISNS (in) "Current sense input", 6 N/C "No connect. These pins must be left floating.", 7 APG/THERM (in) "Adapter power good input/thermistor sense input", 8 EN (in) "Charge-enable input. Active-high enable input with internal pull down. Low-current stand-by mode active when EN is low.", 9 VSEL (in) "8.2-V or 8.4-V charge regulation selection input", 10 GND/HEATSINK (power) "Ground pin; connect to PowerPAD heat-sink layout pattern.", 11 N/C "No connect. These pins must be left floating.", 12 CR "Internal regulator bypass capacitor", 13 TMR SEL "Charge timer selection input", 14 STAT1 (out) "Status display output 1", 15 STAT2 (out) "Status display output 2", 16 AGND (power) "Ground pin; connect close to the negative battery terminal.", 17 VSENSE (in) "Battery voltage sense input", 18 OUT (power) "Charge current output", 19 OUT (power) "Charge current output", 20 N/C "No connect. These pins must be left floating.", 21 EP "Exposed Thermal Pad"